# Altium schematic symbol library MCU_Board_fNIRS.SchLib: 21 symbols
Pins are listed as number, name and electrical type; pins without a type are passive.

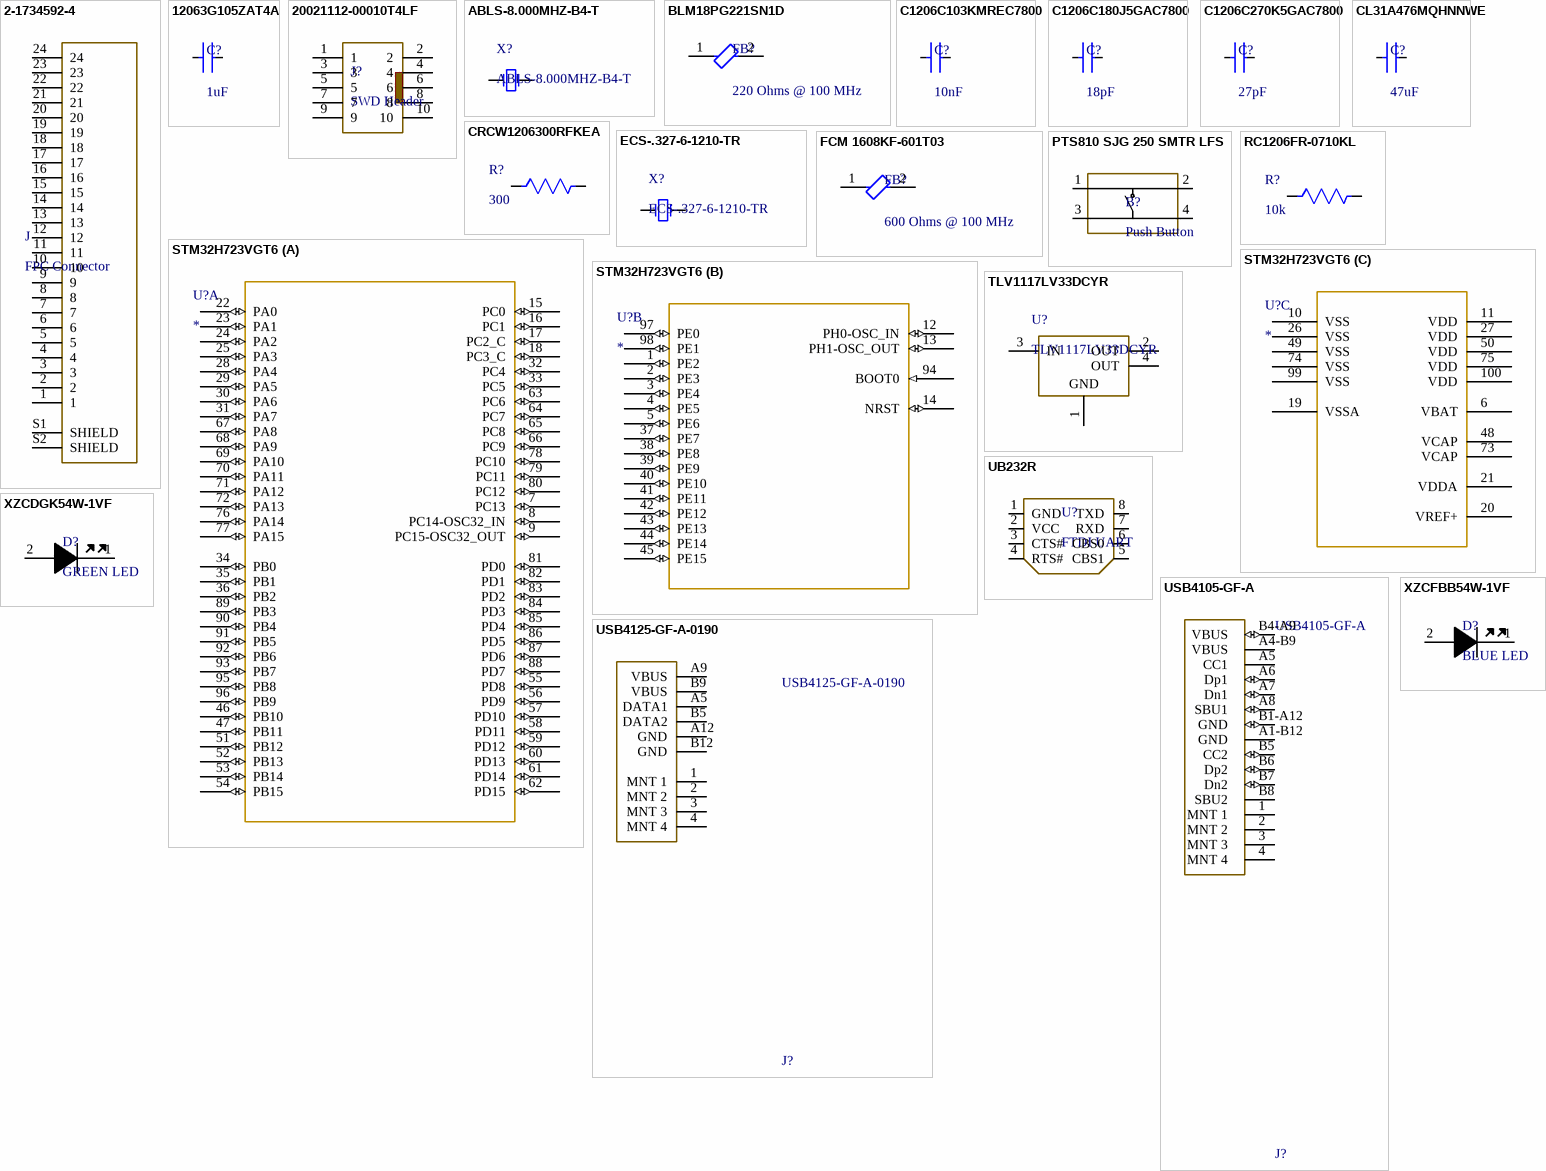
[diagram p0: symbols 2-1734592-4 to XZCFBB54W-1VF]

## 2-1734592-4
designator J, comment FPC Connector
24 Position FPC Connector Contacts, Bottom 0.020" _0.50mm_ Surface Mount, Right Angle; MP: 2-1734592-4; MF: TE Connectivity; Value: *; Package: None; Price: None; SnapEDA_Link: https://www.snapeda.com/parts/2-1734592-4/TE%20Connectivity/view-part/4788511/?ref=snap; Availability: Unavailable
footprint TE_FPC
pins: 1, 2, 3, 4, 5, 6, 7, 8, 9, 10, 11, 12, 13, 14, 15, 16, 17, 18, 19, 20, 21, 22, 23, 24, S1 SHIELD, S2 SHIELD

## 12063G105ZAT4A
designator C?, comment 1uF
CAP 1uF 25V -20% to +80% 1206 (3216 Metric) Thickness 1.3mm; Case-Metric: 3216; Case-EIA: 1206; Tolerance: -20% to +80%; Value: 1uF; Max Thickness: 1.3 mm; Technology: SMT; Rated Voltage: 25 V
footprint CAPC3216X180N
pins: 1, 2
1 alternate drawing of the same symbol

## 20021112-00010T4LF
designator J?, comment SWD Header
Connector Header Through Hole, Right Angle 10 position 0.050" (1.27mm); MF: Amphenol; MP: 20021112-00010T4LF; Package: None; Price: None; Check_prices: https://www.snapeda.com/parts/20021112-00010T4LF/Amphenol/view-part/?ref=eda; Value: *; SnapEDA_Link: https://www.snapeda.com/parts/20021112-00010T4LF/Amphenol/view-part/?ref=snap; Availability: In Stock; Purchase-URL: https://pricing.snapeda.com/search?q=20021112-00010T4LF&ref=eda
footprint AMPHENOL_20021112-00010T4LF
pins: 1, 2, 3, 4, 5, 6, 7, 8, 9, 10

## ABLS-8.000MHZ-B4-T
designator X?
Low Profile Crystal, 8.0 MHz, +/- 30 ppm, -20 to 70 degC, 2-Pin SMD, RoHS, Tape and Reel; Brand: ABRACON; Case Length: 11.4mm; Frequency Stability: 50PPM; ESR: 80Ohms; Case Height: 4.2mm; Tolerance: 30PPM; Frequency: 8MHz; Case Width: 4.7mm; Load Capacitance: 18pF; Datasheet Version: 04/2011; Termination Style: SMD/SMT; Dimensions: 4.7mmWx11.4mmLx4.2mmH; Packaging: Reel; Manufacturer: ABRACON; Package URL: http://www.abracon.com/Support/PackageDrawing/Resonators/ABLS-2D.pdf; Mounting Technology: SurfaceMount; Package Reference: ABLS-14.7456MHZ-B2-T; Product Category: Crystals; Package Description: 2-Pin Surface Mount Device, Body 11.4 x 4.7 mm; Package / Case: HC-49/US; Mounting Style: SMD/SMT; Operating Temperature Range: -20Cto+70C; Series: ABLS; Factory Pack Quantity: 1000; Datasheet URL: http://www.abracon.com/Resonators/abls.pdf; Manufacturer URL: http://www.abracon.com/; RoHS: Details; Type: LowProfileMicroprocessorCrystal
footprint ABRA-ABLS-14.7456MHZ-B2-T_V (SMD, 2-Leads, Body 11.4x4.7mm)
pins: 1 X1, 2 X2

## BLM18PG221SN1D
designator FB?, comment 220 Ohms @ 100 MHz
220 Ohms @ 100 MHz 1 Power Line Ferrite Bead 0603 (1608 Metric) 1.4A 100mOhm; Tolerance: -20% to +80%; Value: 1uF; Case-Metric: 3216; Rated Voltage: 25 V; Case-EIA: 1206; Max Thickness: 1.3 mm; Technology: SMT
footprint BEADC1608X95N
pins: 1, 2
1 alternate drawing of the same symbol

## C1206C103KMREC7800
designator C?, comment 10nF
10000 pF ±10% 63V Ceramic Capacitor X7R 1206 (3216 Metric); Tolerance: -20% to +80%; Value: 1uF; Case-Metric: 3216; Rated Voltage: 25 V; Case-EIA: 1206; Max Thickness: 1.3 mm; Technology: SMT
footprint CAPC1206(3216)130_M (Chip Capacitor, Body 3.2x1.6mm, Height 1.3mm, IPC Low Density)
pins: 1, 2
1 alternate drawing of the same symbol

## C1206C180J5GAC7800
designator C?, comment 18pF
18 pF ±5% 50V Ceramic Capacitor C0G, NP0 1206 (3216 Metric); Tolerance: -20% to +80%; Value: 1uF; Case-Metric: 3216; Rated Voltage: 25 V; Case-EIA: 1206; Max Thickness: 1.3 mm; Technology: SMT
footprint CAPC1206(3216)130_M (Chip Capacitor, Body 3.2x1.6mm, Height 1.3mm, IPC Low Density)
pins: 1, 2
1 alternate drawing of the same symbol

## C1206C270K5GAC7800
designator C?, comment 27pF
CAP CER 27PF 50V C0G/NP0 1206; Tolerance: -20% to +80%; Value: 1uF; Case-Metric: 3216; Rated Voltage: 25 V; Case-EIA: 1206; Max Thickness: 1.3 mm; Technology: SMT
footprint CAPC1206(3216)130_M (Chip Capacitor, Body 3.2x1.6mm, Height 1.3mm, IPC Low Density)
pins: 1, 2
1 alternate drawing of the same symbol

## CL31A476MQHNNWE
designator C?, comment 47uF
47 µF ±20% 6.3V Ceramic Capacitor X5R 1206 (3216 Metric); Tolerance: -20% to +80%; Value: 1uF; Case-Metric: 3216; Rated Voltage: 25 V; Case-EIA: 1206; Max Thickness: 1.3 mm; Technology: SMT
footprint CAPC1206(3216)130_M (Chip Capacitor, Body 3.2x1.6mm, Height 1.3mm, IPC Low Density)
pins: 1, 2
1 alternate drawing of the same symbol

## CRCW1206300RFKEA
designator R?, comment 300
300 Ohms ±1% 0.25W, 1/4W Chip Resistor 1206 (3216 Metric) Automotive AEC-Q200 Thick Film
footprint R1206
pins: 1, 2

## ECS-.327-6-1210-TR
designator X?
Low Profile Crystal, 8.0 MHz, +/- 30 ppm, -20 to 70 degC, 2-Pin SMD, RoHS, Tape and Reel; Brand: ABRACON; Case Length: 11.4mm; Frequency Stability: 50PPM; ESR: 80Ohms; Case Height: 4.2mm; Tolerance: 30PPM; Frequency: 8MHz; Case Width: 4.7mm; Load Capacitance: 18pF; Datasheet Version: 04/2011; Termination Style: SMD/SMT; Dimensions: 4.7mmWx11.4mmLx4.2mmH; Packaging: Reel; Manufacturer: ABRACON; Package URL: http://www.abracon.com/Support/PackageDrawing/Resonators/ABLS-2D.pdf; Mounting Technology: SurfaceMount; Package Reference: ABLS-14.7456MHZ-B2-T; Product Category: Crystals; Package Description: 2-Pin Surface Mount Device, Body 11.4 x 4.7 mm; Package / Case: HC-49/US; Mounting Style: SMD/SMT; Operating Temperature Range: -20Cto+70C; Series: ABLS; Factory Pack Quantity: 1000; Datasheet URL: http://www.abracon.com/Resonators/abls.pdf; Manufacturer URL: http://www.abracon.com/; RoHS: Details; Type: LowProfileMicroprocessorCrystal
footprint ECS-.327-6-1210-TR
pins: 1 X1, 2 X2

## FCM 1608KF-601T03
designator FB?, comment 600 Ohms @ 100 MHz
600 Ohms @ 100 MHz 1 Ferrite Bead 0603 (1608 Metric) 350mA 500mOhm; Tolerance: -20% to +80%; Value: 1uF; Case-Metric: 3216; Rated Voltage: 25 V; Case-EIA: 1206; Max Thickness: 1.3 mm; Technology: SMT
footprint BEADC1608X95N
pins: 1, 2
1 alternate drawing of the same symbol

## PTS810 SJG 250 SMTR LFS
designator B?, comment Push Button
Tactile Switch SPST-NO Top Actuated Surface Mount
footprint PTS810
pins: 1, 2, 3, 4

## RC1206FR-0710KL
designator R?, comment 10k
1206 10kOhm
footprint R1206
pins: 1, 2

## STM32H723VGT6
designator U?
No Description Available; Mfr_Name: STMicroelectronics; RefDes: RefDes; Type: Type
footprint LQFP100_STM
part A pins: 7 PC13 (io), 8 PC14-OSC32_IN (io), 9 PC15-OSC32_OUT (io), 15 PC0 (io), 16 PC1 (io), 17 PC2_C (io), 18 PC3_C (io), 22 PA0 (io), 23 PA1 (io), 24 PA2 (io), 25 PA3 (io), 28 PA4 (io), 29 PA5 (io), 30 PA6 (io), 31 PA7 (io), 32 PC4 (io), 33 PC5 (io), 34 PB0 (io), 35 PB1 (io), 36 PB2 (io), 46 PB10 (io), 47 PB11 (io), 51 PB12 (io), 52 PB13 (io), 53 PB14 (io), 54 PB15 (io), 55 PD8 (io), 56 PD9 (io), 57 PD10 (io), 58 PD11 (io), 59 PD12 (io), 60 PD13 (io), 61 PD14 (io), 62 PD15 (io), 63 PC6 (io), 64 PC7 (io), 65 PC8 (io), 66 PC9 (io), 67 PA8 (io), 68 PA9 (io), 69 PA10 (io), 70 PA11 (io), 71 PA12 (io), 72 PA13 (io), 76 PA14 (io), 77 PA15 (io), 78 PC10 (io), 79 PC11 (io), 80 PC12 (io), 81 PD0 (io), 82 PD1 (io), 83 PD2 (io), 84 PD3 (io), 85 PD4 (io), 86 PD5 (io), 87 PD6 (io), 88 PD7 (io), 89 PB3 (io), 90 PB4 (io), 91 PB5 (io), 92 PB6 (io), 93 PB7 (io), 95 PB8 (io), 96 PB9 (io)
part B pins: 1 PE2 (io), 2 PE3 (io), 3 PE4 (io), 4 PE5 (io), 5 PE6 (io), 12 PH0-OSC_IN (io), 13 PH1-OSC_OUT (io), 14 NRST (io), 37 PE7 (io), 38 PE8 (io), 39 PE9 (io), 40 PE10 (io), 41 PE11 (io), 42 PE12 (io), 43 PE13 (io), 44 PE14 (io), 45 PE15 (io), 94 BOOT0 (in), 97 PE0 (io), 98 PE1 (io)
part C pins: 6 VBAT (power), 10 VSS (power), 11 VDD (power), 19 VSSA (power), 20 VREF+ (power), 21 VDDA (power), 26 VSS (power), 27 VDD (power), 48 VCAP (power), 49 VSS (power), 50 VDD (power), 73 VCAP (power), 74 VSS (power), 75 VDD (power), 99 VSS (power), 100 VDD (power)

## TLV1117LV33DCYR
designator U?
Single Output LDO, 1 A, Fixed 3.3 V Output, 2 to 5.5 V Input, 4-pin SOT-223 (DCY), -40 to 125 degC, Green (RoHS & no Sb/Br); Manufacturer: Texas Instruments; Vout Adj(Min)(V): 3.3; Vdo(Typ)(mV): 1200; Iq(Typ)(mA): 0.05; Accuracy(%): 2; Iout(Max)(A): 1; SubFamily: Single Channel LDO; Vin(Max)(V): 5.5; PackageReference: DCY0004A; PackageDescription: 4-Pin Plastic Small Outline, Body 3.5 x 6.5 mm, Pitch 2.3 mm; Vout Adj(Max)(V): 3.3; Mounting Technology: Surface Mount; ComponentLink2Description: Datasheet; ComponentLink1Description: Manufacturer URL; PartNumber: TLV1117LV33DCYR; ComponentLink3Description: Package Specification; ComponentLink1URL: http://www.ti.com/; ComponentLink2URL: http://www.ti.com/general/docs/lit/getliterature.tsp?genericPartNumber=TLV1117LV33&fileType=pdf; Fixed Output Options(V): 3.3; PackageVersion: 4202506/B; Vin(Min)(V): 2; DatasheetVersion: SBVS160A; Eco-Plan: Green (RoHS & no Sb/Br); ComponentLink3URL: http://www.ti.com/litv/pdf/mpds094a; Code_JEDEC: TO-261
footprint DCY0004A_M (SOT223, 4-Leads, Body 6.7x3.7mm, Pitch 2.3mm, IPC Low Density)
footprint DCY0004A_N (SOT223, 4-Leads, Body 6.7x3.7mm, Pitch 2.3mm, IPC Medium Density)
footprint DCY0004A_L (SOT223, 4-Leads, Body 6.7x3.7mm, Pitch 2.3mm, IPC High Density)
pins: 1 GND (power) "Ground pin", 2 OUT (power) "Regulated output voltage pin.", 3 IN (power) "Input pin.", 4 OUT (power) "Regulated output voltage pin."

## UB232R
designator U?, comment FTDI UART
FT232R - USB 2.0 to UART (RS232) Bridge Interface Evaluation Board
footprint UB232R
pins: 1 GND, 2 VCC, 3 CTS#, 4 RTS#, 5 CBS1, 6 CBS0, 7 RXD, 8 TXD

## USB4105-GF-A
designator J?
CONN RCPT USB2.0 TYPEC 5A; Manufacturer: GCT; Voltage Rating: 20V; Is Female: yes; Current Rating: 5/6.25/1.25/0.25A; Number Of Contacts: 16; Conn Orientation: Right Angle; Device Class L1: Connectors; Category: Conn; Lead Free: Yes; RoHS: TRUE; Temperature Range High: +85°C; Digikey Description: CONN RCPT USB2.0 TYPEC 5A; Device Class L3: unset; ComponentLink2Description: Datasheet; Manufacturer Part Number: USB4105-GF-A; Package: 0; Usb Standard: USB 2.0; Device Class L2: USB Connectors; Automotive: No; Temperature Range Low: -40°C; Height: 3.46mm; Temperature: -40°C to +85°C; Contact Material: Gold,Nickel; ComponentLink2URL: https://gct.co/files/drawings/usb4105.pdf; Octopart: https://octopart.com/usb4105-gf-a-gct-106627878
footprint FP-USB4105-GF-A-MFG
pins: 1 MNT 1 (power), 2 MNT 2 (power), 3 MNT 3 (power), 4 MNT 4 (power), A1-B12 GND (power), A4-B9 VBUS (power), A5 CC1 (power), A6 Dp1 (io), A7 Dn1 (io), A8 SBU1 (io), B1-A12 GND (io), B4-A9 VBUS (io), B5 CC2 (io), B6 Dp2 (io), B7 Dn2 (io), B8 SBU2 (power)

## USB4125-GF-A-0190
designator J?
CONN RCPT TYPE C 6P SMD RA
footprint FP-USB4125-GF-A-0190-MFG
pins: 1 MNT 1, 2 MNT 2, 3 MNT 3, 4 MNT 4, A5 CC1, A9 VBUS, A12 GND, B5 CC2, B9 VBUS, B12 GND
text: DATA1; DATA2

## XZCDGK54W-1VF
designator D?, comment GREEN LED
Green 525nm LED Indication - Discrete 2.65V 0805 (2012 Metric)
footprint XZCFBB54W-1VF
pins: 1, 2

## XZCFBB54W-1VF
designator D?, comment BLUE LED
Blue 470nm LED Indication - Discrete 2.65V 0805 (2012 Metric)
footprint XZCFBB54W-1VF
pins: 1, 2